# Altium schematic symbol library MSP430FR5994.SchLib: 2 symbols
Pins are listed as number, name and electrical type; pins without a type are passive.

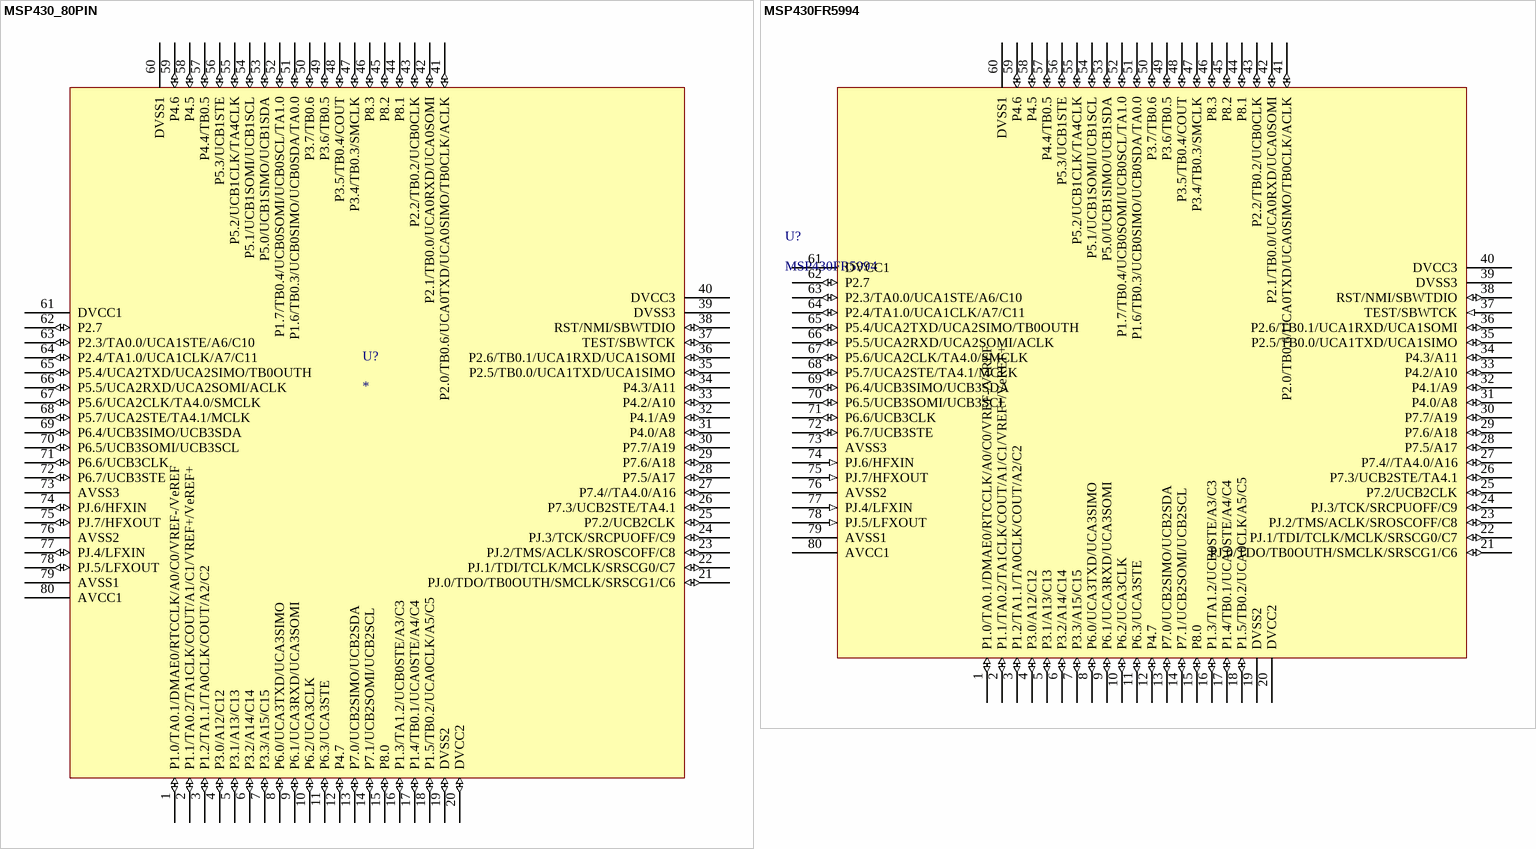
[diagram p0: symbols MSP430_80PIN to MSP430FR5994]

## MSP430_80PIN
designator U?
MSP430FR59941 80pin; Manufacturer: Texas Instruments; Reference: MSP430FR59941
footprint Model Name (Footprint not found)
pins: 1 P1.0/TA0.1/DMAE0/RTCCLK/A0/C0/VREF-/VeREF (io), 2 P1.1/TA0.2/TA1CLK/COUT/A1/C1/VREF+/VeREF+ (io), 3 P1.2/TA1.1/TA0CLK/COUT/A2/C2 (io), 4 P3.0/A12/C12 (io), 5 P3.1/A13/C13 (io), 6 P3.2/A14/C14 (io), 7 P3.3/A15/C15 (io), 8 P6.0/UCA3TXD/UCA3SIMO (io), 9 P6.1/UCA3RXD/UCA3SOMI (io), 10 P6.2/UCA3CLK (io), 11 P6.3/UCA3STE (io), 12 P4.7 (io), 13 P7.0/UCB2SIMO/UCB2SDA (io), 14 P7.1/UCB2SOMI/UCB2SCL (io), 15 P8.0 (io), 16 P1.3/TA1.2/UCB0STE/A3/C3 (io), 17 P1.4/TB0.1/UCA0STE/A4/C4 (io), 18 P1.5/TB0.2/UCA0CLK/A5/C5 (io), 19 DVSS2 (io), 20 DVCC2 (io), 21 PJ.0/TDO/TB0OUTH/SMCLK/SRSCG1/C6 (io), 22 PJ.1/TDI/TCLK/MCLK/SRSCG0/C7 (io), 23 PJ.2/TMS/ACLK/SROSCOFF/C8 (io), 24 PJ.3/TCK/SRCPUOFF/C9 (io), 25 P7.2/UCB2CLK (io), 26 P7.3/UCB2STE/TA4.1 (io), 27 P7.4//TA4.0/A16 (io), 28 P7.5/A17 (io), 29 P7.6/A18 (io), 30 P7.7/A19 (io), 31 P4.0/A8 (io), 32 P4.1/A9 (io), 33 P4.2/A10 (io), 34 P4.3/A11 (io), 35 P2.5/TB0.0/UCA1TXD/UCA1SIMO (io), 36 P2.6/TB0.1/UCA1RXD/UCA1SOMI (io), 37 TEST/SBWTCK (io), 38 RST/NMI/SBWTDIO (io), 39 DVSS3 (power), 40 DVCC3 (power), 41 P2.0/TB0.6/UCA0TXD/UCA0SIMO/TB0CLK/ACLK (io), 42 P2.1/TB0.0/UCA0RXD/UCA0SOMI (io), 43 P2.2/TB0.2/UCB0CLK (io), 44 P8.1 (io), 45 P8.2 (io), 46 P8.3 (io), 47 P3.4/TB0.3/SMCLK (io), 48 P3.5/TB0.4/COUT (io), 49 P3.6/TB0.5 (io), 50 P3.7/TB0.6 (io), 51 P1.6/TB0.3/UCB0SIMO/UCB0SDA/TA0.0 (io), 52 P1.7/TB0.4/UCB0SOMI/UCB0SCL/TA1.0 (io), 53 P5.0/UCB1SIMO/UCB1SDA (io), 54 P5.1/UCB1SOMI/UCB1SCL (io), 55 P5.2/UCB1CLK/TA4CLK (io), 56 P5.3/UCB1STE (io), 57 P4.4/TB0.5 (io), 58 P4.5 (io), 59 P4.6 (io), 60 DVSS1 (power), 61 DVCC1 (power), 62 P2.7 (io), 63 P2.3/TA0.0/UCA1STE/A6/C10 (io), 64 P2.4/TA1.0/UCA1CLK/A7/C11 (io), 65 P5.4/UCA2TXD/UCA2SIMO/TB0OUTH (io), 66 P5.5/UCA2RXD/UCA2SOMI/ACLK (io), 67 P5.6/UCA2CLK/TA4.0/SMCLK (io), 68 P5.7/UCA2STE/TA4.1/MCLK (io), 69 P6.4/UCB3SIMO/UCB3SDA (io), 70 P6.5/UCB3SOMI/UCB3SCL (io), 71 P6.6/UCB3CLK (io), 72 P6.7/UCB3STE (io), 73 AVSS3 (power), 74 PJ.6/HFXIN (io), 75 PJ.7/HFXOUT (io), 76 AVSS2 (power), 77 PJ.4/LFXIN (io), 78 PJ.5/LFXOUT (io), 79 AVSS1 (power), 80 AVCC1 (power)

## MSP430FR5994
designator U?
MSP430FR5994, 80 pin MSP430 FRAM; Manufacturer: Texas Instruments; Reference: MSP430FR5994IPNR
footprint MSP430FR59941PN (TSQFP, 80-Leads, Body 12,00x12,00mm, Pitch 0,50mm, IPC Low Density)
pins: 1 P1.0/TA0.1/DMAE0/RTCCLK/A0/C0/VREF-/VeREF (io), 2 P1.1/TA0.2/TA1CLK/COUT/A1/C1/VREF+/VeREF+ (io), 3 P1.2/TA1.1/TA0CLK/COUT/A2/C2 (io), 4 P3.0/A12/C12 (io), 5 P3.1/A13/C13 (io), 6 P3.2/A14/C14 (io), 7 P3.3/A15/C15 (io), 8 P6.0/UCA3TXD/UCA3SIMO (io), 9 P6.1/UCA3RXD/UCA3SOMI (io), 10 P6.2/UCA3CLK (io), 11 P6.3/UCA3STE (io), 12 P4.7 (io), 13 P7.0/UCB2SIMO/UCB2SDA (io), 14 P7.1/UCB2SOMI/UCB2SCL (io), 15 P8.0 (io), 16 P1.3/TA1.2/UCB0STE/A3/C3 (io), 17 P1.4/TB0.1/UCA0STE/A4/C4 (io), 18 P1.5/TB0.2/UCA0CLK/A5/C5 (io), 19 DVSS2 (power), 20 DVCC2 (power), 21 PJ.0/TDO/TB0OUTH/SMCLK/SRSCG1/C6 (io), 22 PJ.1/TDI/TCLK/MCLK/SRSCG0/C7 (io), 23 PJ.2/TMS/ACLK/SROSCOFF/C8 (io), 24 PJ.3/TCK/SRCPUOFF/C9 (io), 25 P7.2/UCB2CLK (io), 26 P7.3/UCB2STE/TA4.1 (io), 27 P7.4//TA4.0/A16 (io), 28 P7.5/A17 (io), 29 P7.6/A18 (io), 30 P7.7/A19 (io), 31 P4.0/A8 (io), 32 P4.1/A9 (io), 33 P4.2/A10 (io), 34 P4.3/A11 (io), 35 P2.5/TB0.0/UCA1TXD/UCA1SIMO (io), 36 P2.6/TB0.1/UCA1RXD/UCA1SOMI (io), 37 TEST/SBWTCK (in), 38 RST/NMI/SBWTDIO (io), 39 DVSS3 (power), 40 DVCC3 (power), 41 P2.0/TB0.6/UCA0TXD/UCA0SIMO/TB0CLK/ACLK (io), 42 P2.1/TB0.0/UCA0RXD/UCA0SOMI (io), 43 P2.2/TB0.2/UCB0CLK (io), 44 P8.1 (io), 45 P8.2 (io), 46 P8.3 (io), 47 P3.4/TB0.3/SMCLK (io), 48 P3.5/TB0.4/COUT (io), 49 P3.6/TB0.5 (io), 50 P3.7/TB0.6 (io), 51 P1.6/TB0.3/UCB0SIMO/UCB0SDA/TA0.0 (io), 52 P1.7/TB0.4/UCB0SOMI/UCB0SCL/TA1.0 (io), 53 P5.0/UCB1SIMO/UCB1SDA (io), 54 P5.1/UCB1SOMI/UCB1SCL (io), 55 P5.2/UCB1CLK/TA4CLK (io), 56 P5.3/UCB1STE (io), 57 P4.4/TB0.5 (io), 58 P4.5 (io), 59 P4.6 (io), 60 DVSS1 (power), 61 DVCC1 (power), 62 P2.7 (io), 63 P2.3/TA0.0/UCA1STE/A6/C10 (io), 64 P2.4/TA1.0/UCA1CLK/A7/C11 (io), 65 P5.4/UCA2TXD/UCA2SIMO/TB0OUTH (io), 66 P5.5/UCA2RXD/UCA2SOMI/ACLK (io), 67 P5.6/UCA2CLK/TA4.0/SMCLK (io), 68 P5.7/UCA2STE/TA4.1/MCLK (io), 69 P6.4/UCB3SIMO/UCB3SDA (io), 70 P6.5/UCB3SOMI/UCB3SCL (io), 71 P6.6/UCB3CLK (io), 72 P6.7/UCB3STE (io), 73 AVSS3 (power), 74 PJ.6/HFXIN (in), 75 PJ.7/HFXOUT (in), 76 AVSS2 (power), 77 PJ.4/LFXIN (in), 78 PJ.5/LFXOUT (in), 79 AVSS1 (power), 80 AVCC1 (power)